# Altium footprint library PCB1_1.PcbLib: 64 footprints (part 3 of 4)
Each footprint in its own frame and in the unit in brackets; x right, y up, seen from the top. Pads: shape width x height; smd on the part's side, far side on the other; paste and mask are expansions set on the pad; w line width, h text height; cw(c..) or ccw(c..) is an arc to the next point about the centre after c.
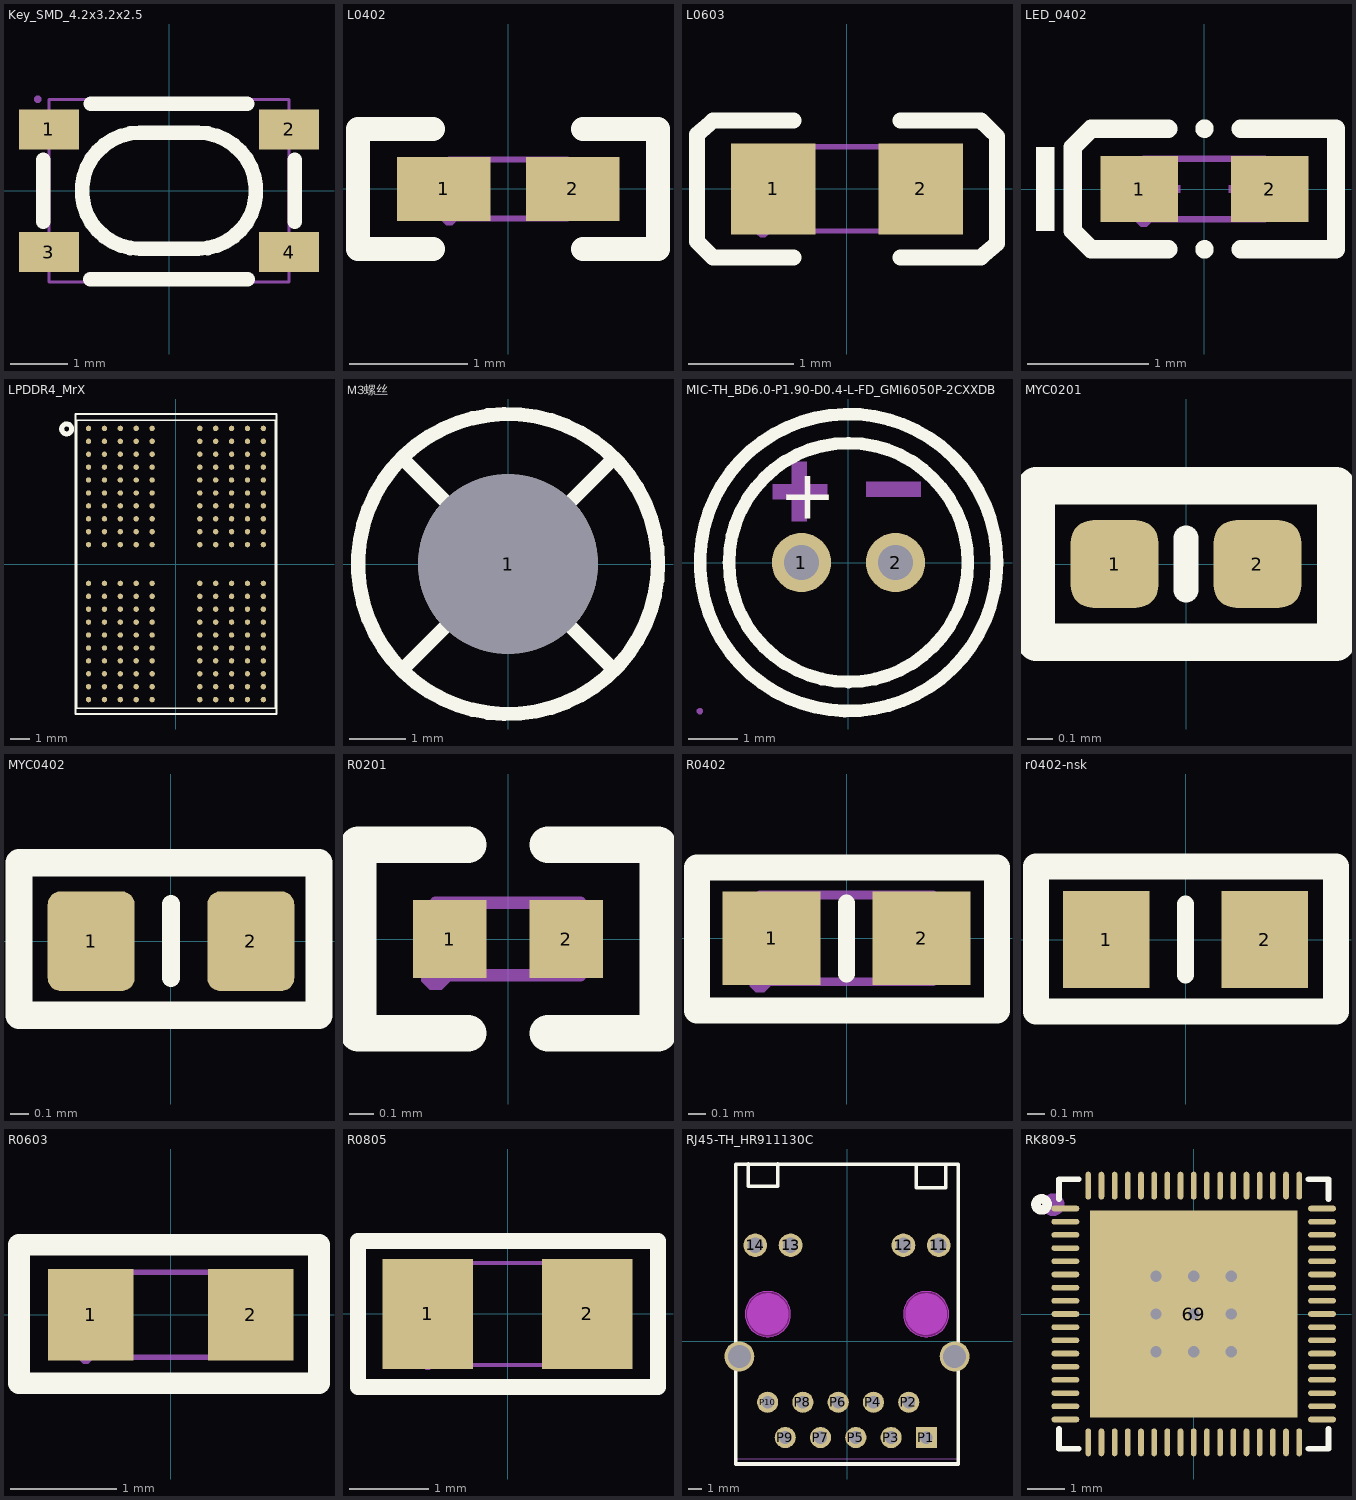
[diagram p2: the footprints below, top view; thin cyan lines are the x and y axes]

## Key_SMD_4.2x3.2x2.5 [mil]
pads (4):
  rect 41.3x27.6 smd paste+0 mask+2: 1(-82.7,42.3) 2(82.7,42.3) 3(-82.7,-42.3) 4(82.7,-42.3)
Top Overlay:
  lines w10: -86.6,-21.4 -86.6,21.4 ; -54.4,-61 54.4,-61 ; -53.8,60 53.8,60 ; 86.6,-21.4 86.6,21.4 ; -20,-40 cw(c-20,0) -20,40 20,40 cw(c20,0) 20,-40 -20,-40
Mechanical 5:
  lines w2: -82.7,-63 -82.7,63 82.7,63 82.7,-63 -82.7,-63
Mechanical 6:
  region: -90.5,60.6 -91.49,60.6 -92.9,62.01 -92.9,63.99 -91.49,65.4 -90.5,65.4 -89.51,65.4 -88.1,63.99 -88.1,62.01 -89.51,60.6 -90.5,60.6
Mechanical 7:
  region: -92.5,53.1 -65,53.1 -65,31.5 -92.5,31.5
  region: 65,53.1 92.6,53.1 92.6,31.5 65,31.5
  region: -92.5,-31.5 -65,-31.5 -65,-53.1 -92.5,-53.1
  region: 65,-31.5 92.6,-31.5 92.6,-53.1 65,-53.1
3D body "SW-SMD_4P-L4.2-W3.4-P2.15-LS5.2.step": height 96.5, standoff -1.93, extent -102.36,-66.93 102.36,66.93

## L0402 [mm]
pads (2):
  rect 0.79x0.54 smd paste-100 mask+0.051: 1(-0.545,0) 2(0.545,0)
Top Overlay:
  lines w0.203: -0.637,-0.509 -1.272,-0.509 -1.272,0.507 -1.018,0.507 -0.637,0.507 ; 0.633,-0.509 1.268,-0.509 1.268,0.507 0.633,0.507
Top Paste:
  region: 0.135,-0.086 0.135,0.086 0.404,0.27 0.9,0.27 0.94,0.23 0.94,-0.23 0.9,-0.27 0.404,-0.27
  region: -0.135,-0.086 -0.135,0.086 -0.404,0.27 -0.9,0.27 -0.94,0.23 -0.94,-0.23 -0.9,-0.27 -0.404,-0.27
Mechanical 5:
  lines w0.051: -0.5,-0.25 -0.5,0.25 0.5,0.25 0.5,-0.25 -0.5,-0.25
Mechanical 6:
  region: -0.5,-0.19 -0.475,-0.19 -0.44,-0.225 -0.44,-0.275 -0.475,-0.31 -0.5,-0.31 -0.525,-0.31 -0.56,-0.275 -0.56,-0.225 -0.525,-0.19 -0.5,-0.19
Mechanical 7:
  region: -0.5,-0.25 -0.5,0.25 -0.25,0.25 -0.25,-0.25
  region: 0.5,-0.25 0.5,0.25 0.25,0.25 0.25,-0.25
3D body "0402.STEP": height 0.5, standoff 0, extent -0.502,-0.251 0.498,0.249

## L0603 [mm]
pads (2):
  rect 0.8x0.864 smd paste-100 mask+0.051: 1(-0.7,0) 2(0.7,0)
Top Overlay:
  lines w0.152: -1.272,-0.65 -0.51,-0.65 ; -1.27,-0.651 -1.424,-0.499 -1.424,0.517 -1.27,0.65 -0.51,0.65 ; 0.51,-0.65 1.272,-0.65 ; 0.51,0.65 1.272,0.65 ; 1.27,-0.65 1.424,-0.517 1.424,0.499 1.27,0.65
Top Paste:
  region: 0.264,0.154 0.264,-0.122 0.538,-0.416 1.042,-0.416 1.106,-0.352 1.106,0.384 1.042,0.448 0.538,0.448
  region: -0.252,0.143 -0.252,-0.134 -0.526,-0.427 -1.029,-0.427 -1.093,-0.363 -1.093,0.373 -1.029,0.437 -0.526,0.437
Mechanical 5:
  lines w0.051: -0.8,-0.4 -0.8,0.4 0.8,0.4 0.8,-0.4 -0.8,-0.4
Mechanical 6:
  region: -0.74,-0.4 -0.74,-0.425 -0.775,-0.46 -0.825,-0.46 -0.86,-0.425 -0.86,-0.4 -0.86,-0.375 -0.825,-0.34 -0.775,-0.34 -0.74,-0.375 -0.74,-0.4
Mechanical 7:
  region: -0.5,-0.4 -0.8,-0.4 -0.8,0.4 -0.5,0.4
  region: 0.8,-0.4 0.5,-0.4 0.5,0.4 0.8,0.4
3D body "0603.STEP": height 0.8, standoff 0, extent -0.8,-0.4 0.8,0.4

## LED_0402 [mil]
pads (2):
  rect 25.1x21.3 smd paste-3937.01 mask+2: 1(-21.2,0) 2(21.2,0)
Top Overlay:
  circle w3: c0,19.6 r1.5
  circle w3: c0,-19.6 r1.5
  region: -48.7,-13.6 -48.7,13.6 -54.7,13.6 -54.7,-13.6
  lines w6: -11.7,-19.6 -36.7,-19.6 -42.7,-13.6 -42.7,13.6 -36.7,19.6 -11.7,19.6 ; 11.7,-19.6 42.7,-19.6 42.7,19.6 11.7,19.6
Top Paste:
  region: -7.8,-9.1 -7.8,9.1 -9.4,10.6 -32.1,10.6 -33.7,9.1 -33.7,-9.1 -32.1,-10.6 -9.4,-10.6
  region: 7.8,-9.1 7.8,9.1 9.4,10.6 32.1,10.6 33.7,9.1 33.7,-9.1 32.1,-10.6 9.4,-10.6
Mechanical 4:
  region: 13.8,-7.9 13.8,7.9 11.4,7.9 11.4,-7.9
  region: 17.3,-1.2 17.3,1.2 7.9,1.2 7.9,-1.2
  region: -17.3,-1.2 -17.3,1.2 -7.9,1.2 -7.9,-1.2
Mechanical 5:
  lines w2: -19.7,-9.8 19.7,-9.8 19.7,9.8 -19.7,9.8 -19.7,-9.8
Mechanical 6:
  region: -17.3,-9.8 -17.3,-10.79 -18.71,-12.2 -20.69,-12.2 -22.1,-10.79 -22.1,-9.8 -22.1,-8.81 -20.69,-7.4 -18.71,-7.4 -17.3,-8.81 -17.3,-9.8
Mechanical 7:
  region: 19.7,-9.8 19.7,9.8 11.8,9.8 11.8,-9.8
  region: -19.7,-9.8 -19.7,9.8 -11.8,9.8 -11.8,-9.8
3D body "LED-SMD_L1.0-W0.5_FC-F1005UGK.step": height 13.39, standoff -0.39, extent -19.68,-9.84 19.68,9.88

## LPDDR4_MrX [mm]
pads (200):
  round 0.27 smd: A1(-4.4,6.825) A2(-3.6,6.825) A3(-2.8,6.825) A4(-2,6.825) A5(-1.2,6.825) A8(1.2,6.825) A9(2,6.825) A10(2.8,6.825) A11(3.6,6.825) A12(4.4,6.825) AA1(-4.4,-6.175) AA2(-3.6,-6.175) AA3(-2.8,-6.175) AA4(-2,-6.175) AA5(-1.2,-6.175) AA8(1.2,-6.175) AA9(2,-6.175) AA10(2.8,-6.175) AA11(3.6,-6.175) AA12(4.4,-6.175) AB1(-4.4,-6.825) AB2(-3.6,-6.825) AB3(-2.8,-6.825) AB4(-2,-6.825) AB5(-1.2,-6.825) AB8(1.2,-6.825) AB9(2,-6.825) AB10(2.8,-6.825) AB11(3.6,-6.825) AB12(4.4,-6.825) B1(-4.4,6.175) B2(-3.6,6.175) B3(-2.8,6.175) B4(-2,6.175) B5(-1.2,6.175) B8(1.2,6.175) B9(2,6.175) B10(2.8,6.175) B11(3.6,6.175) B12(4.4,6.175) C1(-4.4,5.525) C2(-3.6,5.525) C3(-2.8,5.525) C4(-2,5.525) C5(-1.2,5.525) C8(1.2,5.525) C9(2,5.525) C10(2.8,5.525) C11(3.6,5.525) C12(4.4,5.525) D1(-4.4,4.875) D2(-3.6,4.875) D3(-2.8,4.875) D4(-2,4.875) D5(-1.2,4.875) D8(1.2,4.875) D9(2,4.875) D10(2.8,4.875) D11(3.6,4.875) D12(4.4,4.875) E1(-4.4,4.225) E2(-3.6,4.225) E3(-2.8,4.225) E4(-2,4.225) E5(-1.2,4.225) E8(1.2,4.225) E9(2,4.225) E10(2.8,4.225) E11(3.6,4.225) E12(4.4,4.225) F1(-4.4,3.575) F2(-3.6,3.575) F3(-2.8,3.575) F4(-2,3.575) F5(-1.2,3.575) F8(1.2,3.575) F9(2,3.575) F10(2.8,3.575) F11(3.6,3.575) F12(4.4,3.575) G1(-4.4,2.925) G2(-3.6,2.925) G3(-2.8,2.925) G4(-2,2.925) G5(-1.2,2.925) G8(1.2,2.925) G9(2,2.925) G10(2.8,2.925) G11(3.6,2.925) G12(4.4,2.925) H1(-4.4,2.275) H2(-3.6,2.275) H3(-2.8,2.275) H4(-2,2.275) H5(-1.2,2.275) H8(1.2,2.275) H9(2,2.275) H10(2.8,2.275) H11(3.6,2.275) H12(4.4,2.275) J1(-4.4,1.625) J2(-3.6,1.625) J3(-2.8,1.625) J4(-2,1.625) J5(-1.2,1.625) J8(1.2,1.625) J9(2,1.625) J10(2.8,1.625) J11(3.6,1.625) J12(4.4,1.625) K1(-4.4,0.975) K2(-3.6,0.975) K3(-2.8,0.975) K4(-2,0.975) K5(-1.2,0.975) K8(1.2,0.975) K9(2,0.975) K10(2.8,0.975) K11(3.6,0.975) K12(4.4,0.975) N1(-4.4,-0.975) N2(-3.6,-0.975) N3(-2.8,-0.975) N4(-2,-0.975) N5(-1.2,-0.975) N8(1.2,-0.975) N9(2,-0.975) N10(2.8,-0.975) N11(3.6,-0.975) N12(4.4,-0.975) P1(-4.4,-1.625) P2(-3.6,-1.625) P3(-2.8,-1.625) P4(-2,-1.625) P5(-1.2,-1.625) P8(1.2,-1.625) P9(2,-1.625) P10(2.8,-1.625) P11(3.6,-1.625) P12(4.4,-1.625) R1(-4.4,-2.275) R2(-3.6,-2.275) R3(-2.8,-2.275) R4(-2,-2.275) R5(-1.2,-2.275) R8(1.2,-2.275) R9(2,-2.275) R10(2.8,-2.275) R11(3.6,-2.275) R12(4.4,-2.275) T1(-4.4,-2.925) T2(-3.6,-2.925) T3(-2.8,-2.925) T4(-2,-2.925) T5(-1.2,-2.925) T8(1.2,-2.925) T9(2,-2.925) T10(2.8,-2.925) T11(3.6,-2.925) T12(4.4,-2.925) U1(-4.4,-3.575) U2(-3.6,-3.575) U3(-2.8,-3.575) U4(-2,-3.575) U5(-1.2,-3.575) U8(1.2,-3.575) U9(2,-3.575) U10(2.8,-3.575) U11(3.6,-3.575) U12(4.4,-3.575) V1(-4.4,-4.225) V2(-3.6,-4.225) V3(-2.8,-4.225) V4(-2,-4.225) V5(-1.2,-4.225) V8(1.2,-4.225) V9(2,-4.225) V10(2.8,-4.225) V11(3.6,-4.225) V12(4.4,-4.225) W1(-4.4,-4.875) W2(-3.6,-4.875) W3(-2.8,-4.875) W4(-2,-4.875) W5(-1.2,-4.875) W8(1.2,-4.875) W9(2,-4.875) W10(2.8,-4.875) W11(3.6,-4.875) W12(4.4,-4.875) Y1(-4.4,-5.525) Y2(-3.6,-5.525) Y3(-2.8,-5.525) Y4(-2,-5.525) Y5(-1.2,-5.525) Y8(1.2,-5.525) Y9(2,-5.525) Y10(2.8,-5.525) Y11(3.6,-5.525) Y12(4.4,-5.525)
Top Overlay:
  circle w0.25: c-5.5,6.8 r0.25
  lines w0.08: -5.004,-7.261 -5.004,7.239 4.996,7.239 4.996,-7.261 -5.004,-7.261
  lines w0.1: -5.05,-7.55 -5.05,7.55 5.05,7.55 5.05,-7.55 -5.05,-7.55
3D body "FBGA-200_L15.0-W10.0-BL_K4F6E3S4HM.step": height 0.51, standoff -0.4, extent -5,-7.5 5,7.5

## M3螺丝 [mil]
pads (1):
  round 126 hole 126 paste+0 mask+4: 1(0,0)
Top Overlay:
  circle w10: c0,0 r105
  lines w10: -72.5,-72.5 72.5,72.5 ; -72.5,72.5 72.5,-72.5

## MIC-TH_BD6.0-P1.90-D0.4-L-FD_GMI6050P-2CXXDB [mm]
pads (2):
  round 1.2 hole 0.7: 1(-0.95,0) 2(0.95,0)
Top Overlay:
  circle w0.254: c0,0 r2.413
  circle w0.254: c0,0 r3
  text "+" at -1.397,0.889 h1
Mechanical 4:
  region: -1.534,1.579 -0.434,1.579 -0.434,1.279 -1.534,1.279
  region: -1.143,2.032 -0.843,2.032 -0.843,0.832 -1.143,0.832
  region: 0.357,1.632 1.457,1.632 1.457,1.332 0.357,1.332
Mechanical 5:
  lines w0.051: -3,0 cw(c0,0) 3,0 cw(c0,0) -3,0
Mechanical 6:
  region: -3,-3.06 -3.025,-3.06 -3.06,-3.025 -3.06,-2.975 -3.025,-2.94 -3,-2.94 -2.975,-2.94 -2.94,-2.975 -2.94,-3.025 -2.975,-3.06 -3,-3.06
Mechanical 7:
  region: 0.95,-0.25 0.9,-0.25 0.808,-0.212 0.738,-0.142 0.7,-0.05 0.7,0.05 0.738,0.142 0.808,0.212 0.9,0.25 0.95,0.25 1,0.25 1.092,0.212 1.162,0.142 1.2,0.05 1.2,-0.05 1.162,-0.142 1.092,-0.212 1,-0.25 0.95,-0.25
  region: -0.95,-0.25 -1,-0.25 -1.092,-0.212 -1.162,-0.142 -1.2,-0.05 -1.2,0.05 -1.162,0.142 -1.092,0.212 -1,0.25 -0.95,0.25 -0.9,0.25 -0.808,0.212 -0.738,0.142 -0.7,0.05 -0.7,-0.05 -0.738,-0.142 -0.808,-0.212 -0.9,-0.25 -0.95,-0.25
3D body "MIC-TH_BD6.0-P1.90-D0.4-L-RD.step": height 5.1, standoff -3.5, extent -3,-3 3,3

## MYC0201 [mm]
pads (2):
  rrect50% 0.35x0.35 smd paste-100 mask+0.051: 1(-0.285,0) 2(0.285,0)
Top Overlay:
  lines w0.1: 0,-0.104 0,0.104
  lines w0.15: -0.598,-0.312 0.598,-0.312 0.598,0.312 -0.598,0.312 -0.598,-0.312
3D body "C 0201.STEP": height 0.31, standoff -0.01, extent -0.3,-0.16 0.3,0.16

## MYC0402 [mm]
pads (2):
  rrect30% 0.48x0.55 smd: 1(-0.44,0) 2(0.44,0)
Top Overlay:
  lines w0.1: 0,-0.204 0,0.204
  lines w0.15: -0.838,-0.408 -0.838,0.432 0.816,0.432 0.816,-0.408 -0.838,-0.408
3D body "C 0402.STEP": height 0.53, standoff 0.01, extent -0.5,-0.26 0.5,0.26

## R0201 [mil]
pads (2):
  rect 11.93x12.76 smd paste-3937.01 mask+2: 1(-9.51,0) 2(9.51,0)
Top Overlay:
  lines w6: -6.54,-15.38 -24.48,-15.38 -24.48,15.38 -6.54,15.38 ; 6.54,-15.38 24.48,-15.38 24.48,15.38 6.54,15.38
Top Paste:
  region: 3.19,-5.43 3.19,5.43 4.13,6.38 14.53,6.38 15.48,5.43 15.48,-5.43 14.53,-6.38 4.13,-6.38
  region: -3.19,-5.43 -3.19,5.43 -4.13,6.38 -14.53,6.38 -15.48,5.43 -15.48,-5.43 -14.53,-6.38 -4.13,-6.38
Mechanical 5:
  lines w2: -11.81,-5.91 -11.81,5.91 11.81,5.91 11.81,-5.91 -11.81,-5.91
Mechanical 6:
  region: -9.45,-5.91 -9.45,-6.88 -10.83,-8.27 -12.79,-8.27 -14.17,-6.88 -14.17,-5.91 -14.17,-4.93 -12.79,-3.54 -10.83,-3.54 -9.45,-4.93 -9.45,-5.91
Mechanical 7:
  region: -11.81,-5.91 -11.81,5.91 -5.91,5.91 -5.91,-5.91
  region: 11.81,-5.91 11.81,5.91 5.91,5.91 5.91,-5.91
3D body "R 0201.STEP": height 9.06, standoff -0.06, extent -11.81,-5.91 11.81,5.9

## R0402 [mm]
pads (2):
  rect 0.566x0.54 smd paste-100 mask+0.051: 1(-0.433,0) 2(0.433,0)
Top Overlay:
  lines w0.1: 0,-0.204 0,0.204
  lines w0.15: -0.864,-0.416 -0.864,0.409 0.869,0.409 0.869,-0.416 -0.864,-0.416
Top Paste:
  region: -0.135,-0.23 -0.135,0.23 -0.175,0.27 -0.676,0.27 -0.716,0.23 -0.716,-0.23 -0.676,-0.27 -0.175,-0.27
  region: 0.135,-0.23 0.135,0.23 0.175,0.27 0.676,0.27 0.716,0.23 0.716,-0.23 0.676,-0.27 0.175,-0.27
Mechanical 5:
  lines w0.051: -0.5,-0.25 0.5,-0.25 0.5,0.25 -0.5,0.25 -0.5,-0.25
Mechanical 6:
  region: -0.5,-0.19 -0.475,-0.19 -0.44,-0.225 -0.44,-0.275 -0.475,-0.31 -0.5,-0.31 -0.525,-0.31 -0.56,-0.275 -0.56,-0.225 -0.525,-0.19 -0.5,-0.19
Mechanical 7:
  region: -0.249,0.25 -0.249,-0.25 -0.499,-0.25 -0.499,0.25
  region: 0.251,-0.25 0.251,0.25 0.501,0.25 0.501,-0.25
3D body "R 0402.STEP": height 0.3, standoff 0, extent -0.5,-0.25 0.5,0.25

## r0402-nsk [mil]
pads (2):
  rect 19.68x22 smd paste+0 mask+2: 1(-17.99,0) 2(18,0)
Top Overlay:
  lines w3.94: 0,-8.03 0,8.03
  lines w5.91: -34,-16.38 34.2,-16.38 34.2,16.65 -34,16.65 -34,-16.38
3D body "R 0402.STEP": height 11.85, standoff -0.09, extent -19.68,-9.84 19.69,9.85

## R0603 [mil]
pads (2):
  rect 31.75x34.02 smd paste-3937.01 mask+2: 1(-29.66,0) 2(29.66,0)
Top Overlay:
  lines w8: -56.2,-25.32 54.97,-25.32 54.97,25.86 -56.2,25.86 -56.2,-25.32
Top Paste:
  region: -13.98,15.75 -13.98,6.77 -28.94,6.77 -28.94,-6.22 -13.98,-6.22 -13.98,-15.75 -15.94,-17.72 -47.05,-17.72 -49.02,-15.75 -49.02,15.75 -47.05,17.72 -15.94,17.72
  region: 47.05,17.72 15.55,17.72 13.58,15.75 13.58,6.77 28.15,6.77 28.15,-6.22 13.58,-6.22 13.58,-15.75 15.55,-17.72 47.05,-17.72 49.02,-15.75 49.02,15.75
Mechanical 5:
  lines w2: -31.5,-15.75 31.5,-15.75 31.5,15.75 -31.5,15.75 -31.5,-15.75
Mechanical 6:
  region: -31.5,-13.39 -30.52,-13.39 -29.14,-14.77 -29.14,-16.73 -30.52,-18.11 -31.5,-18.11 -32.48,-18.11 -33.86,-16.73 -33.86,-14.77 -32.48,-13.39 -31.5,-13.39
Mechanical 7:
  region: 31.5,-15.75 31.5,15.75 19.68,15.75 19.68,-15.75
  region: -31.5,-15.75 -31.5,15.75 -19.68,15.75 -19.68,-15.75
3D body "R 0603.STEP": height 15.79, standoff -0.13, extent -31.49,-15.47 31.5,16.03

## R0805 [mm]
pads (2):
  rect 1.133x1.377 smd paste-100 mask+0.051: 1(-1,0) 2(1,0)
Top Overlay:
  lines w0.203: -1.876,-0.914 1.887,-0.914 1.887,0.914 -1.876,0.914 -1.876,-0.914
Top Paste:
  region: -1.7,-0.64 -1.7,0.64 -1.65,0.69 -0.5,0.69 -0.45,0.64 -0.445,0.23 -0.895,0.23 -0.895,-0.22 -0.455,-0.22 -0.45,-0.64 -0.5,-0.69 -1.65,-0.69
  region: 0.45,-0.64 0.45,-0.22 0.895,-0.22 0.895,0.23 0.455,0.23 0.45,0.64 0.5,0.69 1.65,0.69 1.7,0.64 1.7,-0.64 1.65,-0.69 0.5,-0.69
Mechanical 5:
  lines w0.051: -1,-0.637 -1,0.637 1,0.637 1,-0.637 -1,-0.637
Mechanical 6:
  region: -1,-0.578 -0.975,-0.578 -0.94,-0.613 -0.94,-0.662 -0.975,-0.698 -1,-0.698 -1.025,-0.698 -1.06,-0.662 -1.06,-0.613 -1.025,-0.578 -1,-0.578
Mechanical 7:
  region: -1,-0.637 -1,0.637 -0.6,0.637 -0.6,-0.637
  region: 1,-0.637 1,0.637 0.6,0.637 0.6,-0.637
3D body "R 0805.STEP": height 0.5, standoff -0.01, extent -1,-0.625 1,0.625

## RJ45-TH_HR911130C [mil]
pads (16):
  round 66.93 hole 43.31: 11(260,272.62) 12(160,272.62) 13(-160,272.62) 14(-260,272.62)
  rect 60x60 hole 35.83: P1(225,-272.62)
  round 60 hole 35.83: P2(175,-172.38) P3(125,-272.38) P4(75,-172.38) P5(25,-272.38) P6(-25,-172.38) P7(-75,-272.38) P8(-125,-172.38) P9(-175,-272.38) P10(-225,-172.38)
  round 85 hole 65: SHIELD0(-305.12,-42.48) SHIELD1(305.12,-42.48)
Top Overlay:
  lines w10: -279.53,502.82 -279.53,439.82 -196.85,439.82 -196.85,471.32 -196.85,502.82 ; 196.82,498.88 196.82,435.88 279.5,435.88 279.5,467.38 279.5,498.88 ; -315,-347.38 315,-347.38 315,502.62 -315,502.62 -315,-347.38
Keep-Out Layer:
  board cut-out: -224.4,141.6 -218.1,141.6 -205.74,139.14 -194.1,134.31 -183.62,127.31 -174.71,118.4 -167.71,107.92 -162.88,96.28 -160.42,83.92 -160.42,71.32 -162.88,58.96 -167.71,47.32 -174.71,36.84 -183.62,27.93 -194.1,20.93 -205.74,16.1 -218.1,13.64 -224.4,13.64 -230.7,13.64 -243.06,16.1 -254.7,20.93 -265.18,27.93 -274.09,36.84 -281.09,47.32 -285.92,58.96 -288.38,71.32 -288.38,83.92 -285.92,96.28 -281.09,107.92 -274.09,118.4 -265.18,127.31 -254.7,134.31 -243.06,139.14 -230.7,141.6 -224.4,141.6
  board cut-out: 224.4,141.6 230.7,141.6 243.06,139.14 254.7,134.31 265.18,127.31 274.09,118.4 281.09,107.92 285.92,96.28 288.38,83.92 288.38,71.32 285.92,58.96 281.09,47.32 274.09,36.84 265.18,27.93 254.7,20.93 243.06,16.1 230.7,13.64 224.4,13.64 218.1,13.64 205.74,16.1 194.1,20.93 183.62,27.93 174.71,36.84 167.71,47.32 162.88,58.96 160.42,71.32 160.42,83.92 162.88,96.28 167.71,107.92 174.71,118.4 183.62,127.31 194.1,134.31 205.74,139.14 218.1,141.6 224.4,141.6
Keep-Out Layer:
  drawing of 6 lines, arcs and shapes, not listed
Mechanical 1:
  circle w0.1: c-224.4,77.62 r63.98
  circle w0.1: c224.4,77.62 r63.98
Mechanical 4:
  circle w59.05: c224.4,77.62 r29.53
  circle w59.05: c-224.4,77.62 r29.53
Mechanical 5:
  lines w2: -314.96,-331.81 -314.96,502.83 314.96,502.83 314.96,-331.81 -314.96,-331.81
Mechanical 6:
  region: 314.96,-328.27 315.94,-328.27 317.32,-329.65 317.32,-331.61 315.94,-332.99 314.96,-332.99 313.98,-332.99 312.6,-331.61 312.6,-329.65 313.98,-328.27 314.96,-328.27
Mechanical 7:
  region: -212.4,-184.98 -237.6,-184.98 -237.6,-159.78 -212.4,-159.78
  region: -162.4,-284.98 -187.6,-284.98 -187.6,-259.78 -162.4,-259.78
  region: -112.4,-184.98 -137.6,-184.98 -137.6,-159.78 -112.4,-159.78
  region: -62.4,-284.98 -87.6,-284.98 -87.6,-259.78 -62.4,-259.78
  region: -12.4,-184.98 -37.6,-184.98 -37.6,-159.78 -12.4,-159.78
  region: 37.6,-284.98 12.4,-284.98 12.4,-259.78 37.6,-259.78
  region: 87.6,-184.98 62.4,-184.98 62.4,-159.78 87.6,-159.78
  region: 137.6,-284.98 112.4,-284.98 112.4,-259.78 137.6,-259.78
  region: 187.6,-184.98 162.4,-184.98 162.4,-159.78 187.6,-159.78
  region: 237.6,-285.22 212.4,-285.22 212.4,-260.02 237.6,-260.02
  region: 172.6,260.02 147.4,260.02 147.4,285.22 172.6,285.22
  region: 272.6,260.02 247.4,260.02 247.4,285.22 272.6,285.22
  region: -147.4,260.02 -172.6,260.02 -172.6,285.22 -147.4,285.22
  region: -247.4,260.02 -272.6,260.02 -272.6,285.22 -247.4,285.22
  region: -299.21,-72.01 -311.02,-72.01 -311.02,-12.95 -299.21,-12.95
  region: 311.03,-72.01 299.21,-72.01 299.21,-12.95 311.03,-12.95
3D body "RJ45-TH_HR911130C.step": height 574.27, standoff -157.48, extent -358.47,-341.71 358.52,496.91

## RK809-5 [mm]
pads (69):
  oval 0.74x0.15 smd paste-100 mask+0.051: 1(-3.407,2.8) 2(-3.407,2.45) 3(-3.407,2.1) 4(-3.407,1.75) 5(-3.407,1.4) 6(-3.407,1.05) 7(-3.407,0.7) 8(-3.407,0.35) 9(-3.407,0) 10(-3.407,-0.35) 11(-3.407,-0.7) 12(-3.407,-1.05) 13(-3.407,-1.4) 14(-3.407,-1.75) 15(-3.407,-2.1) 16(-3.407,-2.45) 17(-3.407,-2.8) 35(3.407,-2.8) 36(3.407,-2.45) 37(3.407,-2.1) 38(3.407,-1.75) 39(3.407,-1.4) 40(3.407,-1.05) 41(3.407,-0.7) 42(3.407,-0.35) 43(3.407,0) 44(3.407,0.35) 45(3.407,0.7) 46(3.407,1.05) 47(3.407,1.4) 48(3.407,1.75) 49(3.407,2.1) 50(3.407,2.45) 51(3.407,2.8)
  oval 0.15x0.74 smd paste-100 mask+0.051: 18(-2.8,-3.407) 19(-2.45,-3.407) 20(-2.1,-3.407) 21(-1.75,-3.407) 22(-1.4,-3.407) 23(-1.05,-3.407) 24(-0.7,-3.407) 25(-0.35,-3.407) 26(0,-3.407) 27(0.35,-3.407) 28(0.7,-3.407) 29(1.05,-3.407) 30(1.4,-3.407) 31(1.75,-3.407) 32(2.1,-3.407) 33(2.45,-3.407) 34(2.8,-3.407) 52(2.8,3.407) 53(2.45,3.407) 54(2.1,3.407) 55(1.75,3.407) 56(1.4,3.407) 57(1.05,3.407) 58(0.7,3.407) 59(0.35,3.407) 60(0,3.407) 61(-0.35,3.407) 62(-0.7,3.407) 63(-1.05,3.407) 64(-1.4,3.407) 65(-1.75,3.407) 66(-2.1,3.407) 67(-2.45,3.407) 68(-2.8,3.407)
  rect 5.5x5.5 smd paste-100 mask+0.051: 69(0,0)
via 0,-1 diameter 0.6 hole 0.3
via 1,0 diameter 0.6 hole 0.3
via 1,-1 diameter 0.6 hole 0.3
via 1,1 diameter 0.6 hole 0.3
via 0,1 diameter 0.6 hole 0.3
via -1,1 diameter 0.6 hole 0.3
via -1,0 diameter 0.6 hole 0.3
via 0,0 diameter 0.6 hole 0.3
via -1,-1 diameter 0.6 hole 0.3
Top Overlay:
  circle w0.254: c-4.04,2.91 r0.148
  lines w0.152: -3.576,-3.05 -3.576,-3.576 -3.05,-3.576 ; -3.576,3.05 -3.576,3.576 -3.05,3.576 ; 3.05,-3.576 3.576,-3.576 3.576,-3.05 ; 3.05,3.576 3.576,3.576 3.576,3.05
Top Paste:
  drawing of 69 lines, arcs and shapes, not listed
Mechanical 4:
  circle w0.3: c-3.73,2.9 r0.15
3D body "QFN-68_L7.0-W7.0-P0.35-BL-EP5.5.step": height 0.75, standoff 0, extent -3.5,-3.5 3.5,3.5